# EAGLE library part HTRC11001T/02EE,11 (library HTRC11001T_02EE_11)
HITAG reader chip Check availability <https://pricing.snapeda.com/parts/HTRC11001T/02EE%2C11/NXP%20USA/view-part?ref=eda>
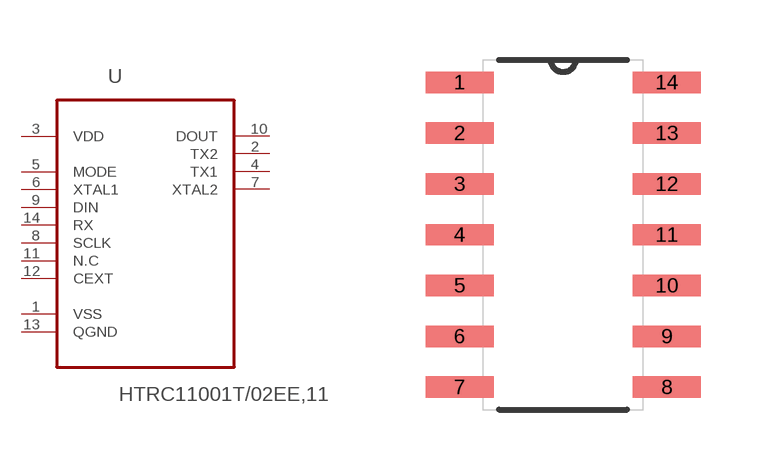
[diagram p0: symbol with the pads of SOIC127P600X175-14N; footprint SOIC127P600X175-14N]

Designator prefix U

## HTRC11001T/02EE,11 (Availability: In Stock; Description: RFID Reader IC 125kHz - - 4.5V ~ 5.5V 14-SOIC (0.154, 3.90mm Width); MF: NXP USA; MP: HTRC11001T/02EE,11; Package: SOIC-14 NXP Semiconductors; Price: None; Purchase-URL: https://pricing.snapeda.com/search/part/HTRC11001T/02EE,11/?ref=eda)  [SOIC127P600X175-14N]
1  VSS  pwr
2  TX2  out
3  VDD  pwr
4  TX1  pas
5  MODE  out
6  XTAL1  in
7  XTAL2  out
8  SCLK  in
9  DIN  in
10  DOUT  out
11  N.C  nc
12  CEXT  in
13  QGND  pas
14  RX  in

## Footprint SOIC127P600X175-14N (pad centres in mm)
smd 1.702 x 0.533: 1 -2.591,3.81; 2 -2.591,2.54; 3 -2.591,1.27; 4 -2.591,0; 5 -2.591,-1.27; 6 -2.591,-2.54; 7 -2.591,-3.81; 8 2.591,-3.81; 9 2.591,-2.54; 10 2.591,-1.27; 11 2.591,0; 12 2.591,1.27; 13 2.591,2.54; 14 2.591,3.81